# EAGLE library part BTS50040-2SFA (library PROFET - Infineon)
BTS50040-2SFA Smart High-Side Power Switch, Dual Channel: 2x4mOhm, High Current PROFET SOP65P1030X265-36N-V
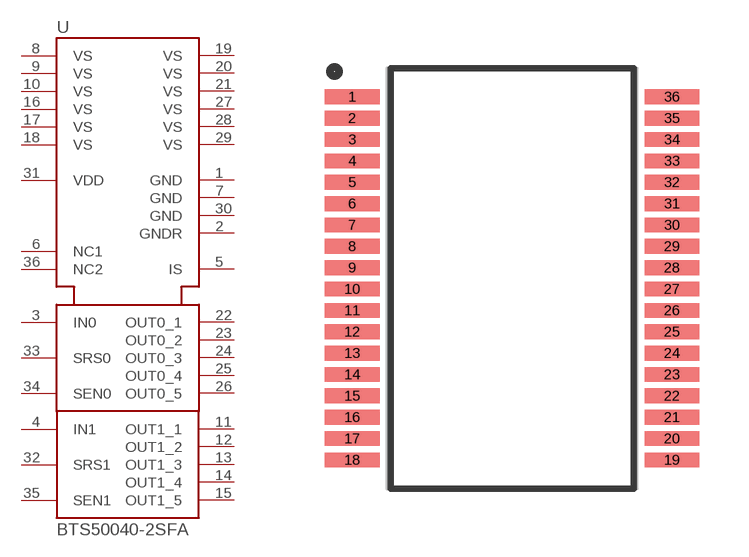
[diagram p32: symbol with the pads of SOP65P1030X265-36N-V; footprint SOP65P1030X265-36N-V]

Designator prefix U

## BTS50040-2SFA  [SOP65P1030X265-36N-V]
1  GND  pwr
2  GNDR  pwr
3  IN0  in
4  IN1  in
5  IS  out
6  NC1  pas
7  GND  pwr
8  VS  pwr
9  VS  pwr
10  VS  pwr
11  OUT1_1  out
12  OUT1_2  out
13  OUT1_3  out
14  OUT1_4  out
15  OUT1_5  out
16  VS  pwr
17  VS  pwr
18  VS  pwr
19  VS  pwr
20  VS  pwr
21  VS  pwr
22  OUT0_1  out
23  OUT0_2  out
24  OUT0_3  out
25  OUT0_4  out
26  OUT0_5  out
27  VS  pwr
28  VS  pwr
29  VS  pwr
30  GND  pwr
31  VDD  pwr
32  SRS1  in
33  SRS0  in
34  SEN0  in
35  SEN1  in
36  NC2  pas

## Footprint SOP65P1030X265-36N-V (pad centres in mm)
Original name SOP65P1030X265-36N-V Max Component Height - 2.65mm
smd 1.67 x 0.45: 1 -4.865,5.525; 2 -4.865,4.875; 3 -4.865,4.225; 4 -4.865,3.575; 5 -4.865,2.925; 6 -4.865,2.275; 7 -4.865,1.625; 8 -4.865,0.975; 9 -4.865,0.325; 10 -4.865,-0.325; 11 -4.865,-0.975; 12 -4.865,-1.625; 13 -4.865,-2.275; 14 -4.865,-2.925; 15 -4.865,-3.575; 16 -4.865,-4.225; 17 -4.865,-4.875; 18 -4.865,-5.525; 19 4.865,-5.525; 20 4.865,-4.875; 21 4.865,-4.225; 22 4.865,-3.575; 23 4.865,-2.925; 24 4.865,-2.275; 25 4.865,-1.625; 26 4.865,-0.975; 27 4.865,-0.325; 28 4.865,0.325; 29 4.865,0.975; 30 4.865,1.625; 31 4.865,2.275; 32 4.865,2.925; 33 4.865,3.575; 34 4.865,4.225; 35 4.865,4.875; 36 4.865,5.525